# EAGLE library part TST-105-01-L-D (library TST-105-01-L-D)
10 Position, Shrouded PCB Headers, 0.100" pitch Source: Datasheet <http://suddendocs.samtec.com/prints/tst-1xx-xx-x-x-xx-xx-mkt.pdf>
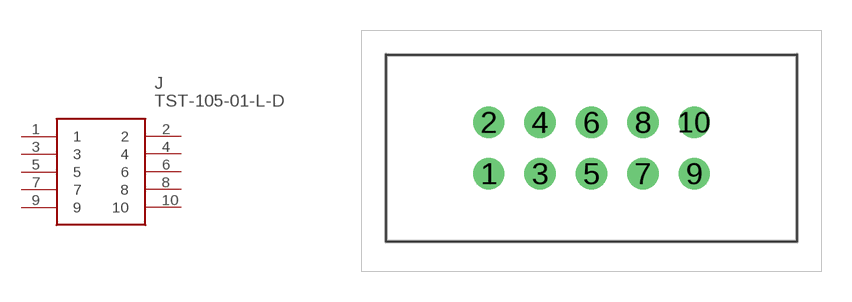
[diagram p0: symbol with the pads of TST-105-XX-Y; footprint TST-105-XX-Y]

Designator prefix J

## TST-105-01-L-D (Description: 10 Position, Shrouded PCB Headers, 0.100&quot; pitch; Height: mm; Manufacturer_Name: SAMTEC; Manufacturer_Part_Number: TST-105-01-L-D; Mouser_Part_Number: 200-TST10501LD; Mouser_Price-Stock: https://www.mouser.co.uk/ProductDetail/Samtec/TST-105-01-L-D?qs=rU5fayqh%252BE3T4XEa6zyGyQ%3D%3D)  [TST-105-XX-Y]
1  1
2  2
3  3
4  4
5  5
6  6
7  7
8  8
9  9
10  10

## Footprint TST-105-XX-Y (pad centres in mm)
TST-105-XX-Y-D
drill 1.02 pad 1.55: 1 0,0; 2 0,2.54; 3 2.54,0; 4 2.54,2.54; 5 5.08,0; 6 5.08,2.54; 7 7.62,0; 8 7.62,2.54; 9 10.16,0; 10 10.16,2.54